# EAGLE library part 1.0_FPC_CONN_ZIF_SMT_20 (library my_conn)
1.0 FPC CONN ZIF SMT 20 circuits
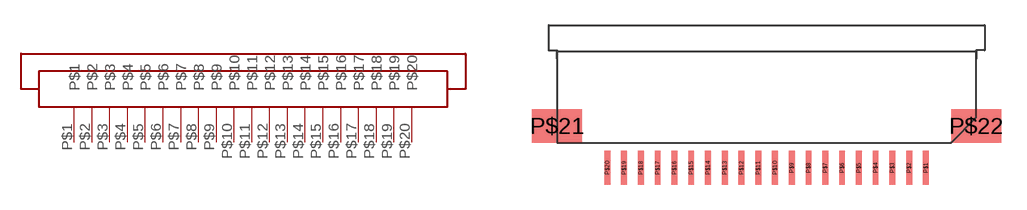
[diagram p0: symbol with the pads of 1.0_FPC_CONN_ZIF_SMT_20; footprint 1.0_FPC_CONN_ZIF_SMT_20]

Designator prefix -

## 1.0_FPC_CONN_ZIF_SMT_20  [1.0_FPC_CONN_ZIF_SMT_20]
P$1  P$1
P$2  P$2
P$3  P$3
P$4  P$4
P$5  P$5
P$6  P$6
P$7  P$7
P$8  P$8
P$9  P$9
P$10  P$10
P$11  P$11
P$12  P$12
P$13  P$13
P$14  P$14
P$15  P$15
P$16  P$16
P$17  P$17
P$18  P$18
P$19  P$19
P$20  P$20

## Footprint 1.0_FPC_CONN_ZIF_SMT_20 (pad centres in mm)
1.0 FPC CONN ZIF SMT 20 circuits
smd 0.35 x 2: P$1 22,-1.5; P$2 21,-1.5; P$3 20,-1.5; P$4 19,-1.5; P$5 18,-1.5; P$6 17,-1.5; P$7 16,-1.5; P$8 15,-1.5; P$9 14,-1.5; P$10 13,-1.5; P$11 12,-1.5; P$12 11,-1.5; P$13 10,-1.5; P$14 9,-1.5; P$15 8,-1.5; P$16 7,-1.5; P$17 6,-1.5; P$18 5,-1.5; P$19 4,-1.5; P$20 3,-1.5
smd 3 x 2: P$21 0,1; P$22 25,1